# Altium footprint library BB-HEADER-DUAL-P01-P32.PcbLib: 1 footprints
Each footprint in its own frame and in the unit in brackets; x right, y up, seen from the top. Pads: shape width x height; smd on the part's side, far side on the other; paste and mask are expansions set on the pad; w line width, h text height; cw(c..) or ccw(c..) is an arc to the next point about the centre after c.
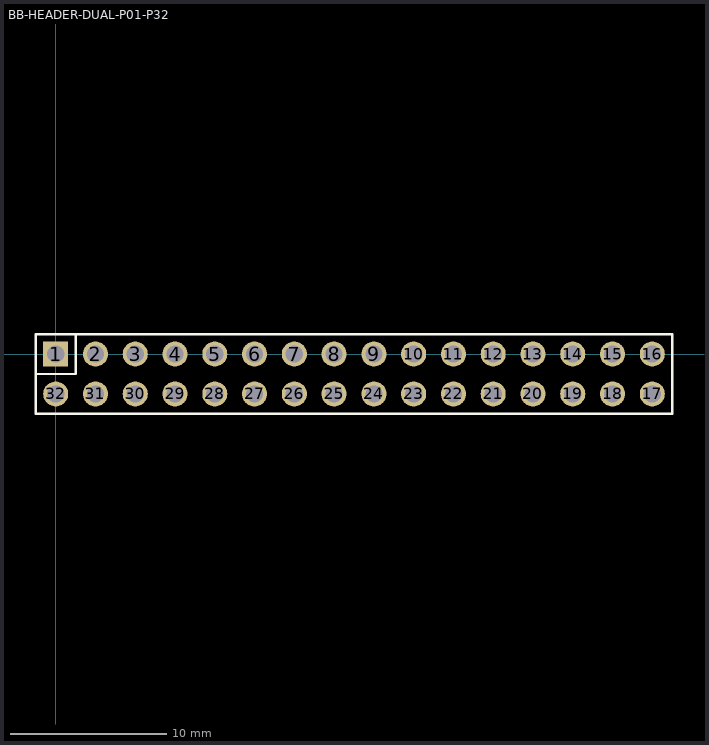
[diagram p0: the footprint, top view; thin cyan lines are the x and y axes]

## BB-HEADER-DUAL-P01-P32 [mm] "Dual Row BB Header, Vertical, Male, 0.1\"2.54mm,P01-P32"
height 11.6
pads (32):
  rect 1.6x1.6 hole 1.1: 1(0,0)
  round 1.6 hole 1.1: 2(2.54,0) 3(5.08,0) 4(7.62,0) 5(10.16,0) 6(12.7,0) 7(15.24,0) 8(17.78,0) 9(20.32,0) 10(22.86,0) 11(25.4,0) 12(27.94,0) 13(30.48,0) 14(33.02,0) 15(35.56,0) 16(38.1,0)
  round 1.6 hole 1.1 unplated: 17(38.1,-2.54) 18(35.56,-2.54) 19(33.02,-2.54) 20(30.48,-2.54) 21(27.94,-2.54) 22(25.4,-2.54) 23(22.86,-2.54) 24(20.32,-2.54) 25(17.78,-2.54) 26(15.24,-2.54) 27(12.7,-2.54) 28(10.16,-2.54) 29(7.62,-2.54) 30(5.08,-2.54) 31(2.54,-2.54) 32(0,-2.54)
Top Overlay:
  lines w0.152: -1.27,-1.27 1.27,-1.27 1.27,1.27 ; -1.27,-3.81 -1.27,1.27 0.635,1.27 39.37,1.27 39.37,-3.81 -1.27,-3.81
Mechanical 13:
  lines w0.1: -1.27,-3.81 39.37,-3.81 39.37,1.27 -1.27,1.27 -1.27,-3.81
Mechanical 15:
  lines w0.05: -1.27,-3.81 39.37,-3.81 39.37,1.27 -1.27,1.27 -1.27,-3.81
3D body: height 8.54, standoff -3, extent -1.27,-1.27 39.37,1.27
3D body: height 8.54, standoff -3, extent -1.27,-3.81 39.37,-1.27